# Altium footprint library PCB库.PcbLib: 17 footprints (part 2 of 2)
Each footprint in its own frame and in the unit in brackets; x right, y up, seen from the top. Pads: shape width x height; smd on the part's side, far side on the other; paste and mask are expansions set on the pad; w line width, h text height; cw(c..) or ccw(c..) is an arc to the next point about the centre after c.
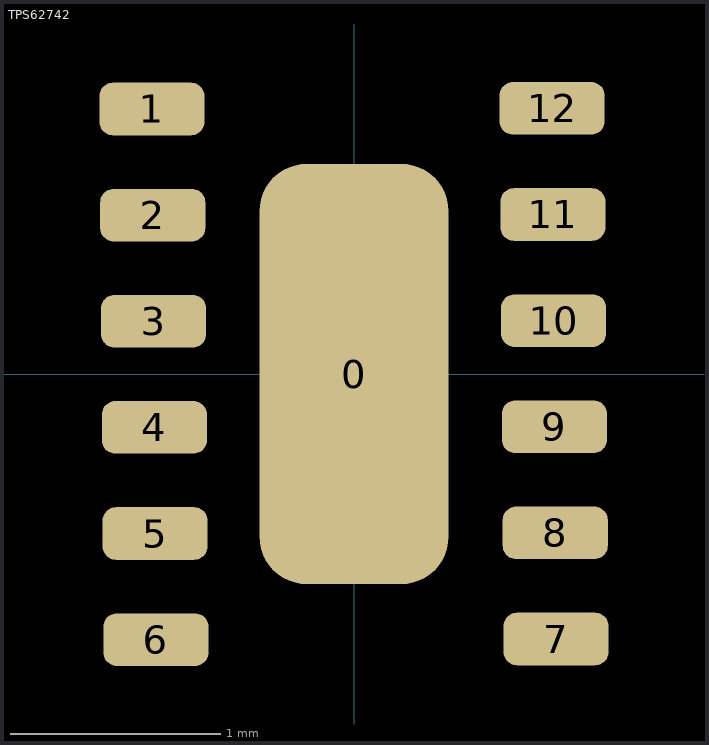
[diagram p1: the footprint, top view; thin cyan lines are the x and y axes]

## TPS62742 [mm] "稳压芯片"
pads (13):
  rrect50% 0.9x2 smd: 0(0,0)
  rrect50% 0.5x0.25 smd: 1(-0.961,1.261) 2(-0.958,0.756) 3(-0.954,0.251) 4(-0.95,-0.254) 5(-0.946,-0.759) 6(-0.942,-1.264) 7(0.961,-1.261) 8(0.958,-0.756) 9(0.954,-0.251) 10(0.95,0.254) 11(0.946,0.759) 12(0.942,1.264)